# EAGLE library part IC-LPC11U*-QFN33 (library mylib)
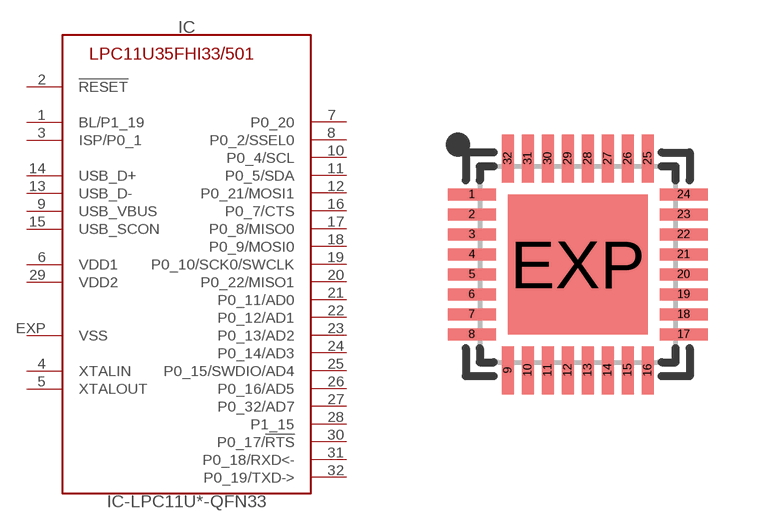
[diagram p112: symbol with the pads of HVQFN33; footprint HVQFN33]

Designator prefix IC

## IC-LPC11U-QFN33-5X5, IC-LPC11U35-QFN33-5X5 (DIGIKEY: 568-9586-ND; SEEED: 310010053)  [HVQFN33]
1  BL/P1_19
2  !RESET!
3  ISP/P0_1
4  XTALIN
5  XTALOUT
6  VDD1
7  P0_20
8  P0_2/SSEL0
9  USB_VBUS
10  P0_4/SCL
11  P0_5/SDA
12  P0_21/MOSI1
13  USB_D-
14  USB_D+
15  USB_SCON
16  P0_7/CTS
17  P0_8/MISO0
18  P0_9/MOSI0
19  P0_10/SCK0/SWCLK
20  P0_22/MISO1
21  P0_11/AD0
22  P0_12/AD1
23  P0_13/AD2
24  P0_14/AD3
25  P0_15/SWDIO/AD4
26  P0_16/AD5
27  P0_32/AD7
28  P1_15
29  VDD2
30  P0_17/!RTS!
31  P0_18/RXD<-
32  P0_19/TXD->
EXP  VSS

## Footprint HVQFN33 (pad centres in mm)
HVQFN32 (SOT617-3) 5 x 5 x .85 mm, Pitch 0.5mm Source: http://www.semiconductors.philips.com/acrobat_download/datasheets/TDA9885_TDA9886_2.pdf
smd 1.2 x 0.3: 1 -2.65,1.75; 2 -2.65,1.25; 3 -2.65,0.75; 4 -2.65,0.25; 5 -2.65,-0.25; 6 -2.65,-0.75; 7 -2.65,-1.25; 8 -2.65,-1.75; 17 2.65,-1.75; 18 2.65,-1.25; 19 2.65,-0.75; 20 2.65,-0.25; 21 2.65,0.25; 22 2.65,0.75; 23 2.65,1.25; 24 2.65,1.75
smd 0.3 x 1.2: 9 -1.75,-2.65; 10 -1.25,-2.65; 11 -0.75,-2.65; 12 -0.25,-2.65; 13 0.25,-2.65; 14 0.75,-2.65; 15 1.25,-2.65; 16 1.75,-2.65; 25 1.75,2.65; 26 1.25,2.65; 27 0.75,2.65; 28 0.25,2.65; 29 -0.25,2.65; 30 -0.75,2.65; 31 -1.25,2.65; 32 -1.75,2.65
smd 3.5 x 3.5: EXP 0,0